# EAGLE library part ADS131M08IRSNR (library ads131qfn)
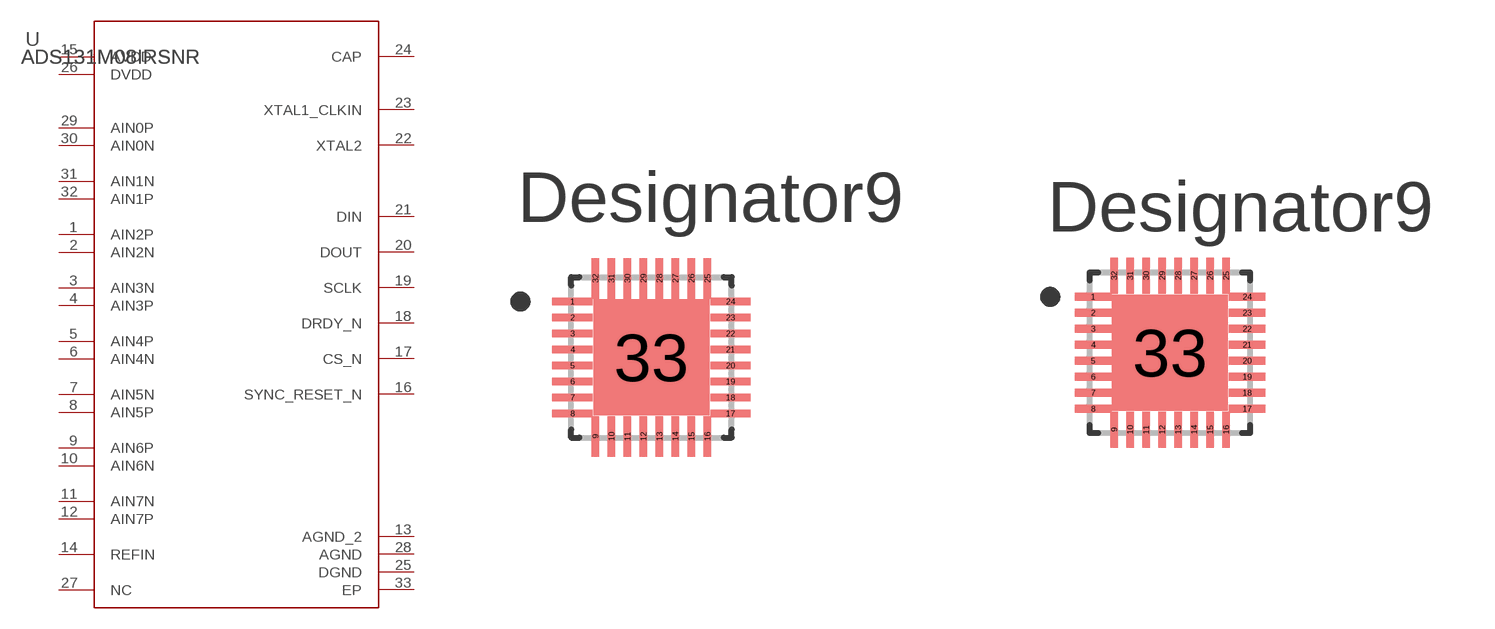
[diagram p0: symbol with the pads of RSN0032B-IPC_A; footprints RSN0032B-IPC_A, RSN0032B-IPC_B]

Designator prefix U

## ADS131M08IRSNR (COPYRIGHT: Copyright (C) 2021 Ultra Librarian. All rights reserved.; MANUFACTURER_PART_NUMBER: ADS131M08IRSNR; MFR_NAME: Texas Instruments; REFDES: RefDes; TYPE: TYPE)  [RSN0032B-IPC_A]
1  AIN2P  pas
2  AIN2N  pas
3  AIN3N  pas
4  AIN3P  pas
5  AIN4P  pas
6  AIN4N  pas
7  AIN5N  pas
8  AIN5P  pas
9  AIN6P  pas
10  AIN6N  pas
11  AIN7N  pas
12  AIN7P  pas
13  AGND_2  pas
14  REFIN  pas
15  AVDD  pwr
16  SYNC_RESET_N  in
17  CS_N  in
18  DRDY_N  out
19  SCLK  in
20  DOUT  out
21  DIN  in
22  XTAL2  in
23  XTAL1_CLKIN  out
24  CAP  pas
25  DGND  pwr
26  DVDD  pwr
27  NC  pas
28  AGND  pwr
29  AIN0P  pas
30  AIN0N  pas
31  AIN1N  pas
32  AIN1P  pas
33  EP  pas

## ADS131M08IRSNRRSN0032B-IPC_B (COPYRIGHT: Copyright (C) 2021 Ultra Librarian. All rights reserved.; MANUFACTURER_PART_NUMBER: ADS131M08IRSNR; MFR_NAME: Texas Instruments; REFDES: RefDes; TYPE: TYPE)  [RSN0032B-IPC_B]
Pads as for RSN0032B-IPC_A

## ADS131M08IRSNRRSN0032B-IPC_C (COPYRIGHT: Copyright (C) 2021 Ultra Librarian. All rights reserved.; MANUFACTURER_PART_NUMBER: ADS131M08IRSNR; MFR_NAME: Texas Instruments; REFDES: RefDes; TYPE: TYPE)  [RSN0032B-IPC_C]
Pads as for RSN0032B-IPC_A

## ADS131M08IRSNRRSN0032B-MFG (COPYRIGHT: Copyright (C) 2021 Ultra Librarian. All rights reserved.; MANUFACTURER_PART_NUMBER: ADS131M08IRSNR; MFR_NAME: Texas Instruments; REFDES: RefDes; TYPE: TYPE)  [RSN0032B-MFG]
Pads as for RSN0032B-IPC_A

## Footprint RSN0032B-IPC_A (pad centres in mm)
smd 1.007 x 0.192: 1 -1.976,1.4; 2 -1.976,1; 3 -1.976,0.6; 4 -1.976,0.2; 5 -1.976,-0.2; 6 -1.976,-0.6; 7 -1.976,-1; 8 -1.976,-1.4; 17 1.976,-1.4; 18 1.976,-1; 19 1.976,-0.6; 20 1.976,-0.2; 21 1.976,0.2; 22 1.976,0.6; 23 1.976,1; 24 1.976,1.4
smd 0.192 x 1.007: 9 -1.4,-1.976; 10 -1,-1.976; 11 -0.6,-1.976; 12 -0.2,-1.976; 13 0.2,-1.976; 14 0.6,-1.976; 15 1,-1.976; 16 1.4,-1.976; 25 1.4,1.976; 26 1,1.976; 27 0.6,1.976; 28 0.2,1.976; 29 -0.2,1.976; 30 -0.6,1.976; 31 -1,1.976; 32 -1.4,1.976
smd 2.9 x 2.9: 33 0,0

## Footprint RSN0032B-IPC_B (pad centres in mm)
smd 0.907 x 0.192: 1 -1.926,1.4; 2 -1.926,1; 3 -1.926,0.6; 4 -1.926,0.2; 5 -1.926,-0.2; 6 -1.926,-0.6; 7 -1.926,-1; 8 -1.926,-1.4; 17 1.926,-1.4; 18 1.926,-1; 19 1.926,-0.6; 20 1.926,-0.2; 21 1.926,0.2; 22 1.926,0.6; 23 1.926,1; 24 1.926,1.4
smd 0.192 x 0.907: 9 -1.4,-1.926; 10 -1,-1.926; 11 -0.6,-1.926; 12 -0.2,-1.926; 13 0.2,-1.926; 14 0.6,-1.926; 15 1,-1.926; 16 1.4,-1.926; 25 1.4,1.926; 26 1,1.926; 27 0.6,1.926; 28 0.2,1.926; 29 -0.2,1.926; 30 -0.6,1.926; 31 -1,1.926; 32 -1.4,1.926
smd 2.9 x 2.9: 33 0,0

## Footprint RSN0032B-IPC_C (pad centres in mm)
smd 0.807 x 0.192: 1 -1.876,1.4; 2 -1.876,1; 3 -1.876,0.6; 4 -1.876,0.2; 5 -1.876,-0.2; 6 -1.876,-0.6; 7 -1.876,-1; 8 -1.876,-1.4; 17 1.876,-1.4; 18 1.876,-1; 19 1.876,-0.6; 20 1.876,-0.2; 21 1.876,0.2; 22 1.876,0.6; 23 1.876,1; 24 1.876,1.4
smd 0.192 x 0.807: 9 -1.4,-1.876; 10 -1,-1.876; 11 -0.6,-1.876; 12 -0.2,-1.876; 13 0.2,-1.876; 14 0.6,-1.876; 15 1,-1.876; 16 1.4,-1.876; 25 1.4,1.876; 26 1,1.876; 27 0.6,1.876; 28 0.2,1.876; 29 -0.2,1.876; 30 -0.6,1.876; 31 -1,1.876; 32 -1.4,1.876
smd 2.9 x 2.9: 33 0,0

## Footprint RSN0032B-MFG (pad centres in mm)
smd 0.18 x 0.18: 1 -2.01,1.4; 2 -2.01,1; 3 -2.01,0.6; 4 -2.01,0.2; 5 -2,-0.2; 6 -2,-0.6; 7 -2,-1; 8 -2,-1.4; 9 -1.4,-2.01; 10 -1,-2.01; 11 -0.6,-2.01; 12 -0.2,-2.01; 13 0.2,-2; 14 0.6,-2; 15 1,-2; 16 1.4,-2; 17 2.01,-1.4; 18 2.01,-1; 19 2.01,-0.6; 20 2.01,-0.2; 21 2,0.2; 22 2,0.6; 23 2,1; 24 2,1.4; 25 1.4,2.01; 26 1,2.01; 27 0.6,2.01; 28 0.2,2.01; 29 -0.2,2; 30 -0.6,2; 31 -1,2; 32 -1.4,2
smd 2.8 x 2.8: 33 0,0
drill 0.305 pad 0.61: 34 -0.991,-0.991; 35 -0.991,0; 36 -0.991,0.991; 37 0,-0.991; 38 0.025,0; 39 0,0.991; 40 0.991,-0.991; 41 0.991,0; 42 0.991,0.991